# Altium footprint library iCopter_Megadrone.PcbLib: 1 footprints
Each footprint in its own frame and in the unit in brackets; x right, y up, seen from the top. Pads: shape width x height; smd on the part's side, far side on the other; paste and mask are expansions set on the pad; w line width, h text height; cw(c..) or ccw(c..) is an arc to the next point about the centre after c.
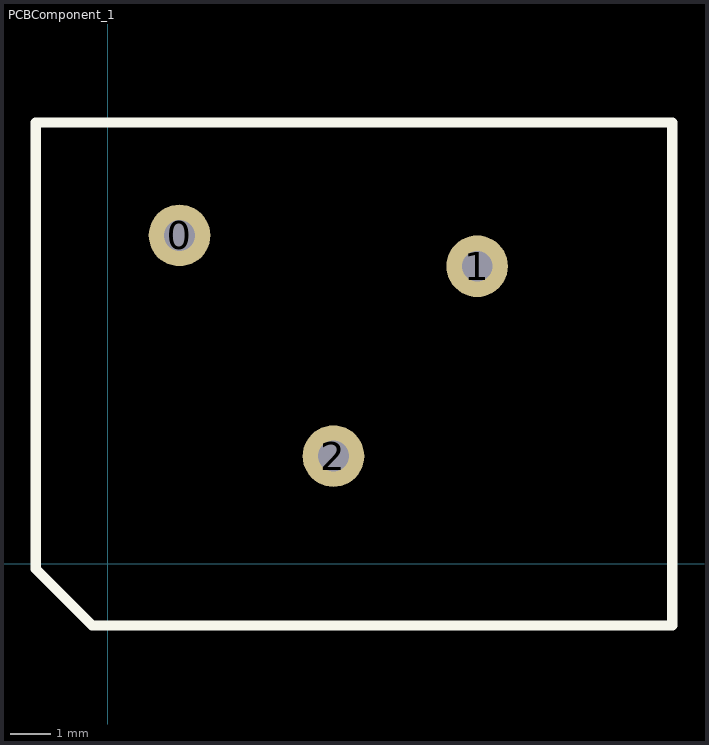
[diagram p0: the footprint, top view; thin cyan lines are the x and y axes]

## PCBComponent_1 [mil]
pads (3):
  round 60 hole 30: 0(70,320) 1(360,290) 2(220,105)
Top Overlay:
  lines w10: -70,-5 -70,430 550,430 550,-60 -15,-60 -70,-5